# EAGLE library part SCREEN_2_8_INCH (library components)
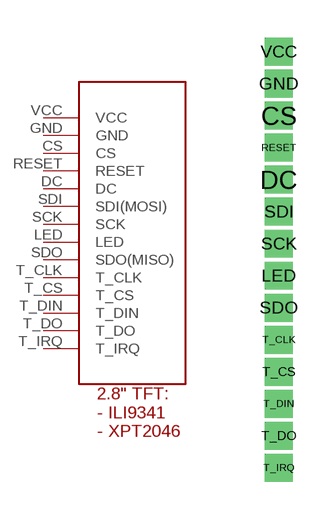
[diagram p1: symbol with the pads of SCREEN_2_8; footprint SCREEN_2_8]

Designator prefix -

## SCREEN_2_8_INCH  [SCREEN_2_8]
CS  CS
DC  DC
GND  GND
LED  LED
RESET  RESET
SCK  SCK
SDI  SDI(MOSI)
SDO  SDO(MISO)
T_CLK  T_CLK
T_CS  T_CS
T_DIN  T_DIN
T_DO  T_DO
T_IRQ  T_IRQ
VCC  VCC

## Footprint SCREEN_2_8 (pad centres in mm)
drill 0.6 square: CS 0,10.16; DC 0,7.62; GND 0,11.43; LED 0,3.81; RESET 0,8.89; SCK 0,5.08; SDI 0,6.35; SDO 0,2.54; T_CLK 0,1.27; T_CS 0,0; T_DIN 0,-1.27; T_DO 0,-2.54; T_IRQ 0,-3.81; VCC 0,12.7